# EAGLE library part AD974X (library FM_transmitter)
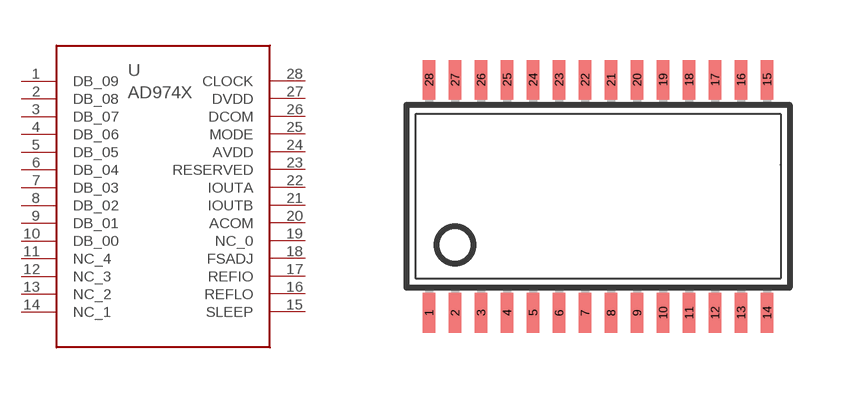
[diagram p1: symbol with the pads of TSSOP28; footprint TSSOP28]

Designator prefix -

## AD974X  [TSSOP28]
1  DB_09
2  DB_08
3  DB_07
4  DB_06
5  DB_05
6  DB_04
7  DB_03
8  DB_02
9  DB_01
10  DB_00
11  NC_4
12  NC_3
13  NC_2
14  NC_1
15  SLEEP
16  REFLO
17  REFIO
18  FSADJ
19  NC_0
20  ACOM
21  IOUTB
22  IOUTA
23  RESERVED
24  AVDD
25  MODE
26  DCOM
27  DVDD
28  CLOCK

## Footprint TSSOP28 (pad centres in mm)
smd 0.305 x 0.991: 1 -4.225,-2.918; 2 -3.575,-2.918; 3 -2.925,-2.918; 4 -2.275,-2.918; 5 -1.625,-2.918; 6 -0.975,-2.918; 7 -0.325,-2.918; 8 0.325,-2.918; 9 0.975,-2.918; 10 1.625,-2.918; 11 2.275,-2.918; 12 2.925,-2.918; 13 3.575,-2.918; 14 4.225,-2.918; 15 4.225,2.918; 16 3.575,2.918; 17 2.925,2.918; 18 2.275,2.918; 19 1.625,2.918; 20 0.975,2.918; 21 0.325,2.918; 22 -0.325,2.918; 23 -0.975,2.918; 24 -1.625,2.918; 25 -2.275,2.918; 26 -2.925,2.918; 27 -3.575,2.918; 28 -4.225,2.918